# EAGLE library part TMP36 (library Sensors_AnalogDevices)
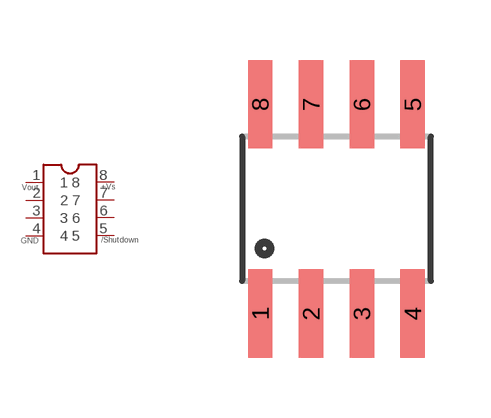
[diagram p0: symbol with the pads of SOIC-8; footprint SOIC-8]

Designator prefix -

## TMP36  [SOIC-8]
1  1
2  2  nc
3  3  nc
4  4
5  5
6  6  nc
7  7  nc
8  8

## Footprint SOIC-8 (pad centres in mm)
smd 0.61 x 2.21: 1 -1.905,-2.616; 2 -0.635,-2.616; 3 0.635,-2.616; 4 1.905,-2.616; 5 1.905,2.616; 6 0.635,2.616; 7 -0.635,2.616; 8 -1.905,2.616